# Altium footprint library Chrono_dot.PcbLib: 5 footprints
Each footprint in its own frame and in the unit in brackets; x right, y up, seen from the top. Pads: shape width x height; smd on the part's side, far side on the other; paste and mask are expansions set on the pad; w line width, h text height; cw(c..) or ccw(c..) is an arc to the next point about the centre after c.
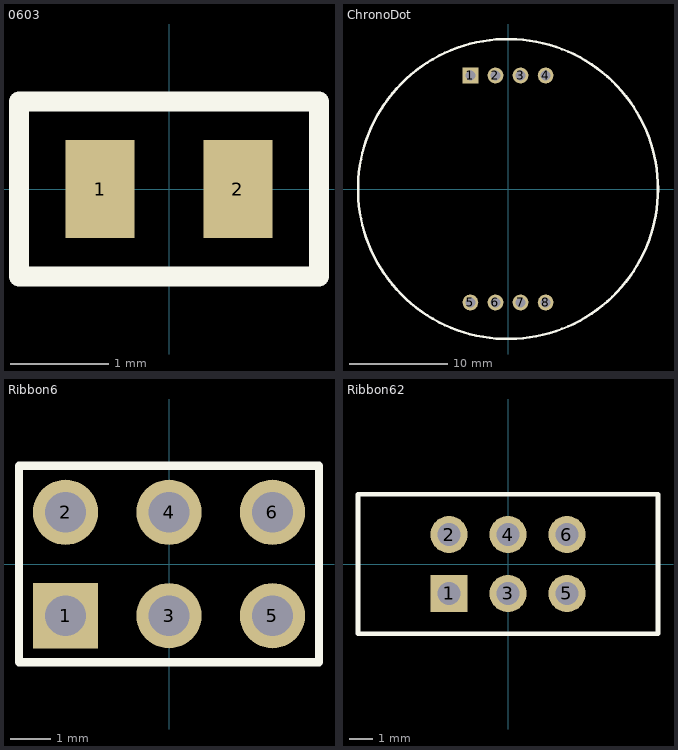
[diagram p0: the footprints below, top view; thin cyan lines are the x and y axes]

## 0603 [mm]
pads (2):
  rect 0.7x1 smd: 1(-0.7,0) 2(0.7,0)
Top Overlay:
  lines w0.2: -1.524,-0.889 1.524,-0.889 1.524,0.889 -1.524,0.889 -1.524,-0.889

## ChronoDot [mm]
pads (8):
  rect 1.6x1.6 hole 1: 1(-3.81,11.506)
  round 1.6 hole 1: 2(-1.27,11.506) 3(1.27,11.506) 4(3.81,11.506) 5(-3.81,-11.5) 6(-1.27,-11.5) 7(1.27,-11.5) 8(3.81,-11.5)
Top Overlay:
  circle w0.254: c0,0 r15.2

## PCBComponent_1 [mm]

## Ribbon6 [mm]
pads (6):
  rect 1.6x1.6 hole 1: 1(-2.54,-1.27)
  round 1.6 hole 1: 2(-2.54,1.27) 3(0,-1.27) 4(0,1.27) 5(2.54,-1.27) 6(2.54,1.27)
Top Overlay:
  lines w0.2: -3.683,-2.413 3.683,-2.413 3.683,2.413 -3.683,2.413 -3.683,-2.413

## Ribbon62 [mm]
pads (6):
  rect 1.6x1.6 hole 1: 1(-2.54,-1.27)
  round 1.6 hole 1: 2(-2.54,1.27) 3(0,-1.27) 4(0,1.27) 5(2.54,-1.27) 6(2.54,1.27)
Top Overlay:
  lines w0.2: -6.46,-3 -6.46,3 6.46,3 6.46,-3 -6.46,-3